# EAGLE library part ATSAMR21G18-MR210UA (library radios)
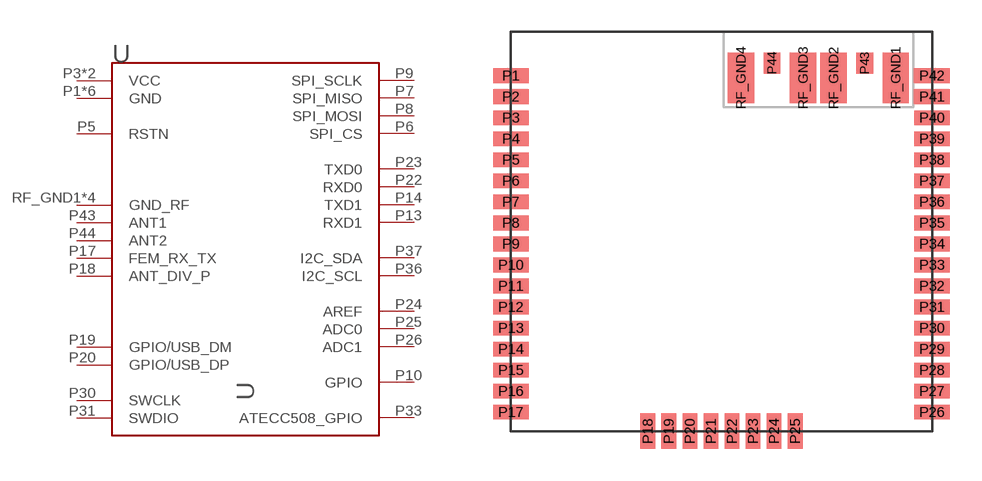
[diagram p0: symbol with the pads of ATSAMR21G18A-MR210UA; footprint ATSAMR21G18A-MR210UA]

Designator prefix -

## ATSAMR21G18-MR210UA  [ATSAMR21G18A-MR210UA]
P1  GND  pwr
P2  GND  pwr
P3  VCC  pwr
P4  VCC  pwr
P5  RSTN  in
P6  SPI_CS
P7  SPI_MISO
P8  SPI_MOSI
P9  SPI_SCLK
P10  GPIO
P12  GND  pwr
P13  RXD1
P14  TXD1
P17  FEM_RX_TX
P18  ANT_DIV_P
P19  GPIO/USB_DM
P20  GPIO/USB_DP
P22  RXD0
P23  TXD0
P24  AREF  pwr
P25  ADC0
P26  ADC1
P29  GND  pwr
P30  SWCLK
P31  SWDIO
P33  ATECC508_GPIO
P36  I2C_SCL
P37  I2C_SDA
P41  GND  pwr
P42  GND  pwr
P43  ANT1  out
P44  ANT2  out
RF_GND1  GND_RF
RF_GND2  GND_RF
RF_GND3  GND_RF
RF_GND4  GND_RF

## Footprint ATSAMR21G18A-MR210UA (pad centres in mm)
smd 1.7 x 0.7: P1 0,16.9; P2 0,15.9; P3 0,14.9; P4 0,13.9; P5 0,12.9; P6 0,11.9; P7 0,10.9; P8 0,9.9; P9 0,8.9; P10 0,7.9; P11 0,6.9; P12 0,5.9; P13 0,4.9; P14 0,3.9; P15 0,2.9; P16 0,1.9; P17 0,0.9; P26 20,0.9; P27 20,1.9; P28 20,2.9; P29 20,3.9; P30 20,4.9; P31 20,5.9; P32 20,6.9; P33 20,7.9; P34 20,8.9; P35 20,9.9; P36 20,10.9; P37 20,11.9; P38 20,12.9; P39 20,13.9; P40 20,14.9; P41 20,15.9; P42 20,16.9
smd 0.7 x 1.7: P18 6.5,0; P19 7.5,0; P20 8.5,0; P21 9.5,0; P22 10.5,0; P23 11.5,0; P24 12.5,0; P25 13.5,0
smd 0.8 x 1: P43 16.8,17.5; P44 12.4,17.5
smd 1.25 x 2.4: RF_GND1 18.275,16.8; RF_GND2 15.325,16.8; RF_GND3 13.875,16.8; RF_GND4 10.925,16.8